# EAGLE library part D-FF5 (library digital)
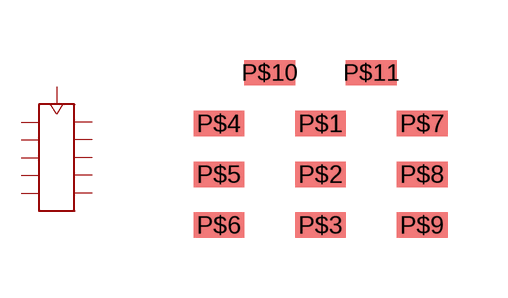
[diagram p2: symbol with the pads of 11PIN; footprint 11PIN]

Designator prefix -

## D-FF5  [11PIN]
P$1  CLK
P$2  D1
P$3  D2
P$4  D3
P$5  D4
P$6  D5
P$7  Q1
P$8  Q2
P$9  Q3
P$10  Q4
P$11  Q5

## Footprint 11PIN (pad centres in mm)
smd 1.27 x 0.635: P$1 0,1.27; P$2 0,0; P$3 0,-1.27; P$4 -2.54,1.27; P$5 -2.54,0; P$6 -2.54,-1.27; P$7 2.54,1.27; P$8 2.54,0; P$9 2.54,-1.27; P$10 -1.27,2.54; P$11 1.27,2.54